# Altium schematic symbol library TLV840.SchLib: 2 symbols
Pins are listed as number, name and electrical type; pins without a type are passive.

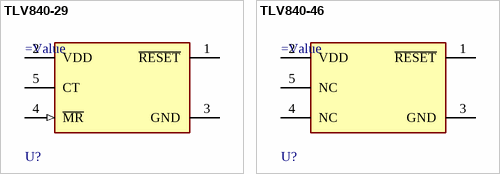
[diagram p0: symbols TLV840-29 to TLV840-46]

## TLV840-29
designator U?
pins: 1 ~{RESET} (oc), 2 VDD (power), 3 GND (power), 4 ~{MR} (in), 5 CT

## TLV840-46
designator U?
pins: 1 ~{RESET} (oc), 2 VDD (power), 3 GND (power), 4 NC, 5 NC